# EAGLE library part XCF01S-VO20 (library Xilinx_VirtexII-xc2v80-4fg256C)
Flash Prom with 1MBit Schinko / Baier
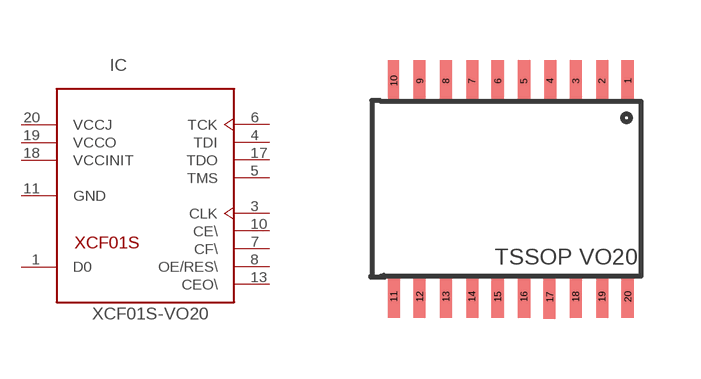
[diagram p1: symbol with the pads of VO20; footprint VO20]

Designator prefix IC

## XCF01S-VO20  [VO20]
1  D0  out
3  CLK  in
4  TDI  in
5  TMS  in
6  TCK  in
7  CF\  oc
8  OE/RES\
10  CE\  in
11  GND  pwr
13  CEO\  out
17  TDO  out
18  VCCINIT  pwr
19  VCCO  pwr
20  VCCJ  pwr

## Footprint VO20 (pad centres in mm)
smd 0.254 x 1.003: 1 2.928,2.701; 2 2.276,2.7; 3 1.626,2.7; 4 0.977,2.701; 5 0.325,2.7; 6 -0.325,2.7; 7 -0.975,2.7; 8 -1.626,2.7; 9 -2.276,2.7; 10 -2.926,2.7; 11 -2.928,-2.7; 12 -2.28,-2.7; 13 -1.623,-2.7; 14 -0.975,-2.7; 15 -0.328,-2.7; 16 0.328,-2.7; 17 0.975,-2.71; 18 1.623,-2.7; 19 2.28,-2.7; 20 2.928,-2.7